# Altium schematic symbol library BTS640S2G.SchLib: 1 symbol
Pins are listed as number, name and electrical type; pins without a type are passive.

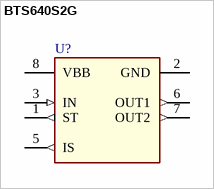
[diagram p0: symbol BTS640S2G]

## BTS640S2G
designator U?  (value not drawn)
Smart Sense High-Side Power Switch, VBB 43V, R(ON) 30mOhm; Manufacturer: Infineon Technologies; ManufacturerPartNumber: BTS640S2G; PackageReference: PG-TO263-7-2
footprint TO127P1490X440-8_7N
pins: 1 ST (out) "Diagnostic feedback", 2 GND (power) "Ground connection for control chip", 3 IN (in) "Input", 5 IS (out) "Sense Current Output", 6 OUT1 (out) "Output", 7 OUT2 (out) "Output", 8 VBB (power) "Possitive Power Supply Voltage"